# Altium schematic symbol library 3296W-1-102LF.SchLib: 1 symbol
Pins are listed as number, name and electrical type; pins without a type are passive.

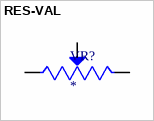
[diagram p0: symbol RES-VAL]

## RES-VAL
designator VR?
Trimmer, Cermet, Rest 1 Kilohms, PCB, 25 Turns, Pwr-Rtg 0.5W | Bourns 3296W-1-102LF; SnapEDA_Link: https://www.snapeda.com/parts/3296W-1-102LF/Bourns/view-part/?ref=snap; Package: NON STANDARD-3 Bourns; Value: *; MF: Bourns; MP: 3296W-1-102LF; Check_prices: https://www.snapeda.com/parts/3296W-1-102LF/Bourns/view-part/?ref=eda
footprint TRIM_3296W-1-102LF
pins: 1 CCW, 2 WIPER, 3 CW